# Altium footprint library TPS7A8001.PcbLib: 1 footprints
Each footprint in its own frame and in the unit in brackets; x right, y up, seen from the top. Pads: shape width x height; smd on the part's side, far side on the other; paste and mask are expansions set on the pad; w line width, h text height; cw(c..) or ccw(c..) is an arc to the next point about the centre after c.
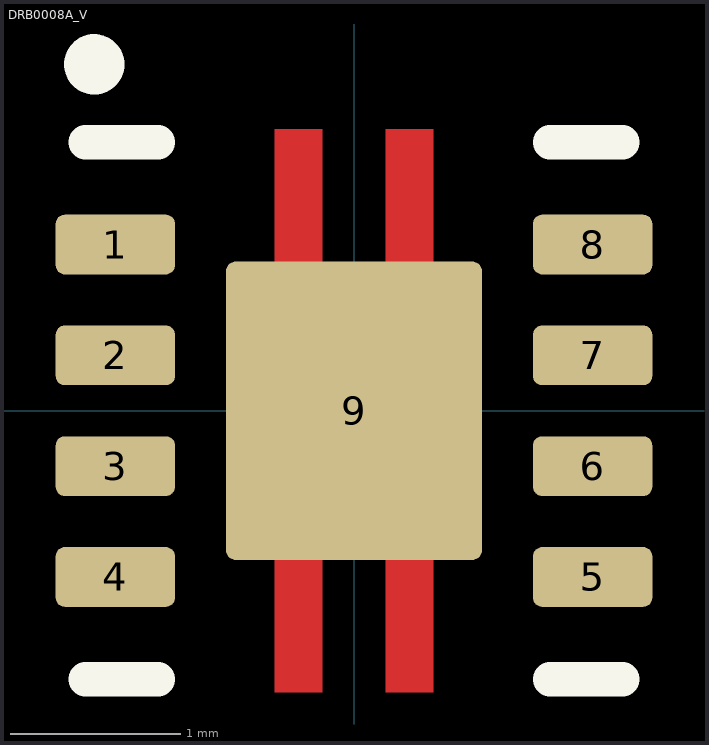
[diagram p0: the footprint, top view; thin cyan lines are the x and y axes]

## DRB0008A_V [mm] "SON, 8-Leads, Body 3x3mm, Pitch 0.65mm, Thermal Pad 1.50 x 3.8mm"
height 1
pads (9):
  rrect29% 0.7x0.35 smd mask+0: 1(-1.4,0.975) 2(-1.4,0.325) 3(-1.4,-0.325) 4(-1.4,-0.975) 5(1.4,-0.975) 6(1.4,-0.325) 7(1.4,0.325) 8(1.4,0.975)
  rrect7% 1.5x1.75 smd mask+0: 9(0,0)
Top Layer:
  region: 0.185,-0.875 0.185,-1.651 0.465,-1.651 0.465,-0.875
  region: -0.185,-0.875 -0.185,-1.651 -0.465,-1.651 -0.465,-0.875
  region: 0.185,0.875 0.185,1.651 0.465,1.651 0.465,0.875
  region: -0.185,0.875 -0.185,1.651 -0.465,1.651 -0.465,0.875
Top Overlay:
  circle w0.254: c-1.524,2.032 r0.05
  lines w0.2: -1.575,-1.575 -1.15,-1.575 ; -1.575,1.575 -1.15,1.575 ; 1.15,-1.575 1.575,-1.575 ; 1.15,1.575 1.575,1.575
Top Paste:
  region: 0.185,0.875 0.185,1.651 0.465,1.651 0.465,0.875
  region: -0.185,-0.875 -0.185,-1.651 -0.465,-1.651 -0.465,-0.875
  region: 0.185,-0.875 0.185,-1.651 0.465,-1.651 0.465,-0.875
  region: -0.185,0.875 -0.185,1.651 -0.465,1.651 -0.465,0.875
Mechanical 15:
  lines w0.1: -0.5,0 0.5,0 ; 0,-0.5 0,0.5
3D body "TPS7A8001.STEP": height 0.97, standoff -0.03, extent -1.5,-1.5 1.5,1.5